# Altium footprint library XH1.27MM_母座.PcbLib: 1 footprints
Each footprint in its own frame and in the unit in brackets; x right, y up, seen from the top. Pads: shape width x height; smd on the part's side, far side on the other; paste and mask are expansions set on the pad; w line width, h text height; cw(c..) or ccw(c..) is an arc to the next point about the centre after c.
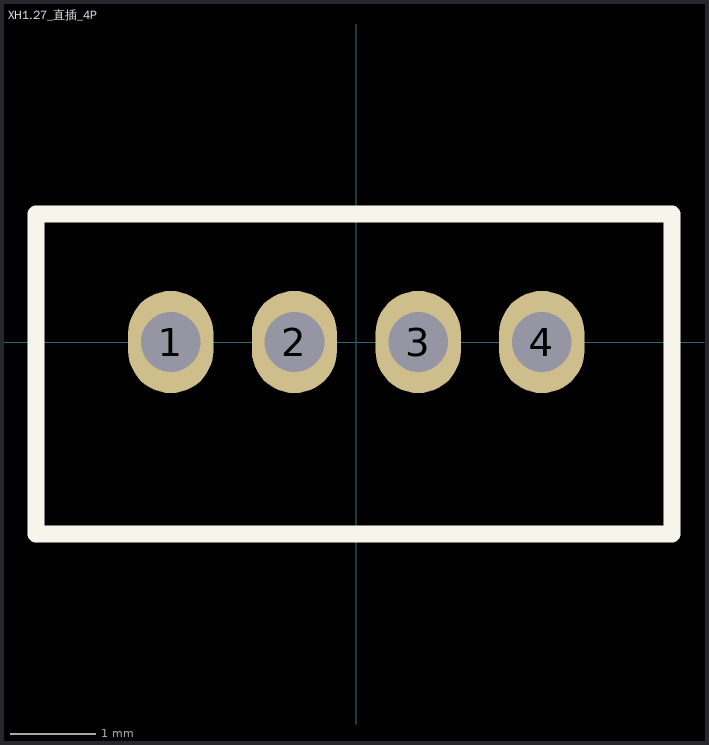
[diagram p0: the footprint, top view; thin cyan lines are the x and y axes]

## XH1.27_直插_4P [mm]
pads (4):
  oval 1x1.2 hole 0.7: 1(-2.175,0) 2(-0.725,0) 3(0.725,0) 4(2.175,0)
Top Overlay:
  lines w0.2: 3.703,-0.375 3.703,-0.37 ; -3.757,-2.25 -3.757,1.5 3.703,1.5 3.703,-2.25 -3.757,-2.25